# Altium schematic symbol library Terminal Blocks.SchLib: 7 symbols
Pins are listed as number, name and electrical type; pins without a type are passive.

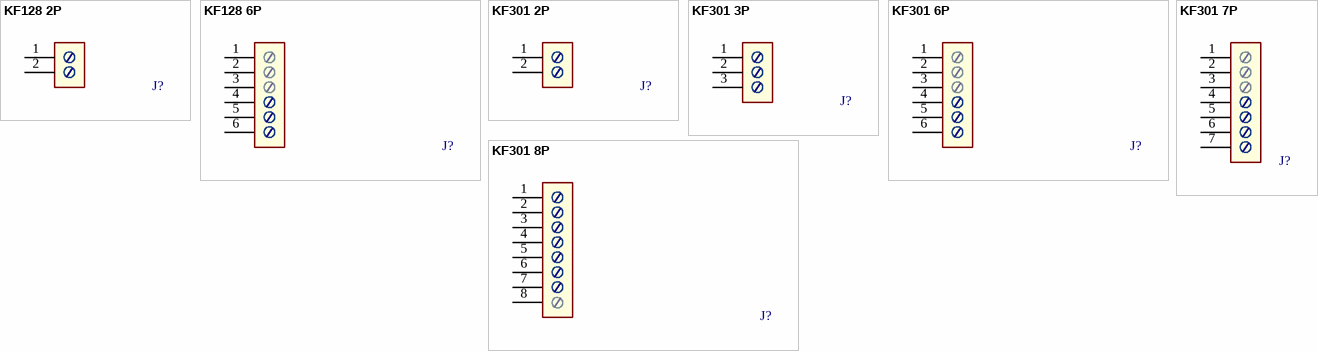
[diagram p0: symbols KF128 2P to KF301 8P]

## KF128 2P
designator J?, comment 2-Ways Wire-to-Board Horizontal  (value not drawn)
2 Position Wire to Board Terminal Block Horizontal with Board 0.200" (5.08mm) Through Hole; Manufacturer 1: Amphenol Anytek; Manufacturer 1 PN: VI0221520000G; ComponentLink1Description: Datasheet; ComponentLink1URL: http://www.on-shore.com/wp-content/uploads/2015/09/OSTTAXX4163.pdf; Digikey PN: 609-3936-ND; Mouser PN: 649-VI02215200J0G
footprint KF128 2P (2 Position Wire to Board Terminal Block Horizontal with Board 0.200" (5.08mm) Through Hole)
pins: 1, 2

## KF128 6P
designator J?, comment 6-Ways Wire-to-Board Horizontal  (value not drawn)
6 Position Wire to Board Terminal Block Horizontal with Board 0.200" (5.08mm) Through Hole; Manufacturer 1: Amphenol Anytek; Manufacturer 1 PN: VI0621550000G; ComponentLink1Description: Datasheet; ComponentLink1URL: http://www.on-shore.com/wp-content/uploads/2015/09/ed120ds.pdf; Digikey PN: 609-3940-ND; Mouser PN: 649-220316-H061B01LF
footprint KF128 6P (6 Position Wire to Board Terminal Block Horizontal with Board 0.200" (5.08mm) Through Hole)
pins: 1 (power), 2 (power), 3 (power), 4 (power), 5 (power), 6 (power)

## KF301 2P
designator J?, comment 2-Ways Wire-to-Board Horizontal  (value not drawn)
2 Position Wire to Board Terminal Block Horizontal with Board 0.200" (5.08mm) Through Hole; Manufacturer 1: On Shore Technology Inc.; Manufacturer 1 PN: OSTTA024163; ComponentLink1Description: Datasheet; ComponentLink1URL: http://www.on-shore.com/wp-content/uploads/2015/09/OSTTAXX4163.pdf; Digikey PN: ED2580-ND
footprint KF301 2P (2 Position Wire to Board Terminal Block Horizontal with Board 0.200" (5.08mm) Through Hole)
pins: 1, 2

## KF301 3P
designator J?, comment 3-Ways Wire-to-Board Horizontal  (value not drawn)
3 Position Wire to Board Terminal Block Horizontal with Board 0.200" (5.08mm) Through Hole; Manufacturer 1: On Shore Technology Inc.; Manufacturer 1 PN: OSTTC032162; ComponentLink1Description: Datasheet; ComponentLink1URL: http://www.on-shore.com/wp-content/uploads/2015/09/ed120ds.pdf; Digikey PN: ED2610-ND
footprint KF301 3P (3 Position Wire to Board Terminal Block Horizontal with Board 0.200" (5.08mm) Through Hole)
pins: 1, 2, 3 (power)

## KF301 6P
designator J?, comment 6-Ways Wire-to-Board Horizontal  (value not drawn)
6 Position Wire to Board Terminal Block Horizontal with Board 0.200" (5.08mm) Through Hole; Manufacturer 1: On Shore Technology Inc.; Manufacturer 1 PN: OSTTC062162; ComponentLink1Description: Datasheet; ComponentLink1URL: http://www.on-shore.com/wp-content/uploads/2015/09/ed120ds.pdf; Digikey PN: ED2613-ND
footprint KF301 6P (6 Position Wire to Board Terminal Block Horizontal with Board 0.200" (5.08mm) Through Hole)
pins: 1 (power), 2 (power), 3 (power), 4 (power), 5 (power), 6 (power)

## KF301 7P
designator J?, comment 7-Ways Wire-to-Board Horizontal  (value not drawn)
7 Position Wire to Board Terminal Block Horizontal with Board 0.200" (5.08mm) Through Hole; Manufacturer 1: On Shore Technology Inc.; Manufacturer 1 PN: OSTTC072162; ComponentLink1Description: Datasheet; ComponentLink1URL: http://www.on-shore.com/wp-content/uploads/2015/09/ed120ds.pdf; Digikey PN: ED2614-ND
footprint KF301 7P (7 Position Wire to Board Terminal Block Horizontal with Board 0.200" (5.08mm) Through Hole)
pins: 1 (power), 2 (power), 3 (power), 4 (power), 5 (power), 6 (power), 7 (power)

## KF301 8P
designator J?, comment 8-Ways Wire-to-Board Horizontal  (value not drawn)
8 Position Wire to Board Terminal Block Horizontal with Board 0.200" (5.08mm) Through Hole; Manufacturer 1: On Shore Technology Inc.; Manufacturer 1 PN: OSTTC082162; ComponentLink1Description: Datasheet; ComponentLink1URL: http://www.on-shore.com/wp-content/uploads/2015/09/ed120ds.pdf; Digikey PN: ED2615-ND
footprint KF301 8P (8 Position Wire to Board Terminal Block Horizontal with Board 0.200" (5.08mm) Through Hole)
pins: 1 (power), 2 (power), 3 (power), 4 (power), 5 (power), 6 (power), 7 (power), 8 (power)